# Altium footprint library 11328T060.PcbLib: 1 footprints
Each footprint in its own frame and in the unit in brackets; x right, y up, seen from the top. Pads: shape width x height; smd on the part's side, far side on the other; paste and mask are expansions set on the pad; w line width, h text height; cw(c..) or ccw(c..) is an arc to the next point about the centre after c.
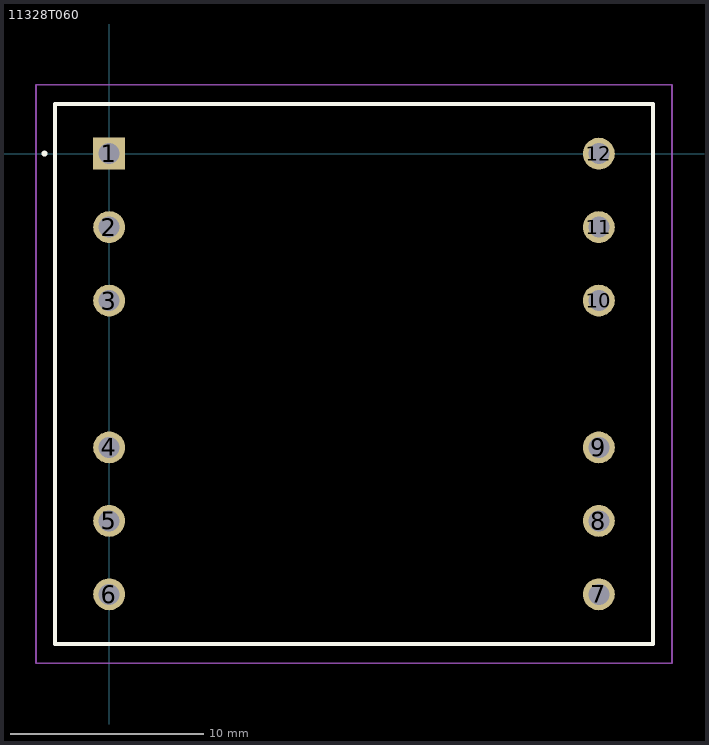
[diagram p0: the footprint, top view; thin cyan lines are the x and y axes]

## 11328T060 [mm]
pads (12):
  rect 1.65x1.65 hole 1.1: 1(0,0)
  round 1.65 hole 1.1: 2(0,-3.81) 3(0,-7.62) 4(0,-15.24) 5(0,-19.05) 6(0,-22.86) 7(25.4,-22.86) 8(25.4,-19.05) 9(25.4,-15.24) 10(25.4,-7.62) 11(25.4,-3.81) 12(25.4,0)
Top Overlay:
  lines w0.2: -3.4,0 -3.4,0 ; -3.4,0 ccw(c-3.35,0) -3.3,0 ; -3.4,0 cw(c-3.35,0) -3.3,0 ; -3.4,0 -3.3,0 ; -3.3,0 -3.3,0 ; -2.8,-25.43 28.2,-25.43 28.2,2.57 -2.8,2.57 -2.8,-25.43
Mechanical 15:
  lines w0.1: -2.8,-25.43 28.2,-25.43 28.2,2.57 -2.8,2.57 -2.8,-25.43
Mechanical 20:
  lines w0.1: -3.8,-26.43 29.2,-26.43 29.2,3.57 -3.8,3.57 -3.8,-26.43